# EAGLE library part FI-XB30SSLA-HF15 (library con-jae)
Connector FI-XB30SSL-HF15 Source: http://jae-connector.com/en/pdf/SJ038317.pdf
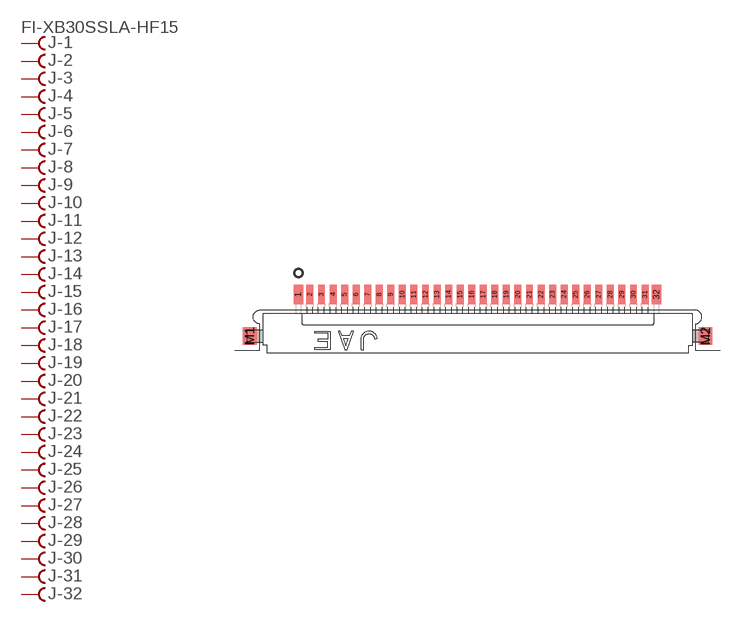
[diagram p12: symbol with the pads of FI-XB30SSLA-HF15; footprint FI-XB30SSLA-HF15]

Designator prefix J; gates -1=FV -2=F -3=F -4=F -5=F -6=F -7=F -8=F -9=F -10=F -11=F -12=F -13=F -14=F -15=F -16=F -17=F -18=F -19=F -20=F -21=F -22=F -23=F -24=F -25=F -26=F -27=F -28=F -29=F -30=F -31=F -32=F

## FI-XB30SSLA-HF15 (DESCRIPTION: Receptacle, SMD, Right angle; MPN: FI-XB30SSLA-HF15; OC_FARNELL: unknown; OC_NEWARK: unknown; ROHS: Yes)  [FI-XB30SSLA-HF15]
1  -1:F  pas
2  -2:F  pas
3  -3:F  pas
4  -4:F  pas
5  -5:F  pas
6  -6:F  pas
7  -7:F  pas
8  -8:F  pas
9  -9:F  pas
10  -10:F  pas
11  -11:F  pas
12  -12:F  pas
13  -13:F  pas
14  -14:F  pas
15  -15:F  pas
16  -16:F  pas
17  -17:F  pas
18  -18:F  pas
19  -19:F  pas
20  -20:F  pas
21  -21:F  pas
22  -22:F  pas
23  -23:F  pas
24  -24:F  pas
25  -25:F  pas
26  -26:F  pas
27  -27:F  pas
28  -28:F  pas
29  -29:F  pas
30  -30:F  pas
31  -31:F  pas
32  -32:F  pas

## Footprint FI-XB30SSLA-HF15 (pad centres in mm)
Connector FI-XB30SSLA-HF15 Source: http://jae-connector.com/en/pdf/SJ038317.pdf
smd 0.8 x 1.7: 1 -15.5,1.35; 32 15.5,1.35
smd 0.6 x 1.7: 2 -14.5,1.35; 3 -13.5,1.35; 4 -12.5,1.35; 5 -11.5,1.35; 6 -10.5,1.35; 7 -9.5,1.35; 8 -8.5,1.35; 9 -7.5,1.35; 10 -6.5,1.35; 11 -5.5,1.35; 12 -4.5,1.35; 13 -3.5,1.35; 14 -2.5,1.35; 15 -1.5,1.35; 16 -0.5,1.35; 17 0.5,1.35; 18 1.5,1.35; 19 2.5,1.35; 20 3.5,1.35; 21 4.5,1.35; 22 5.5,1.35; 23 6.5,1.35; 24 7.5,1.35; 25 8.5,1.35; 26 9.5,1.35; 27 10.5,1.35; 28 11.5,1.35; 29 12.5,1.35; 30 13.5,1.35; 31 14.5,1.35
smd 1.2 x 1.5: M1 -19.725,-2.25; M2 19.725,-2.25